# Altium schematic symbol library MCP1700T-SOT23.SchLib: 1 symbol
Pins are listed as number, name and electrical type; pins without a type are passive.

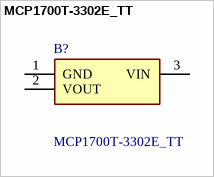
[diagram p0: symbol MCP1700T-3302E_TT]

## MCP1700T-3302E_TT
designator B?
LDO voltage regulator 250mA Isupply 1uA; Manufacturer_Name: Microchip; Manufacturer_Part_Number: MCP1700T-3302E/TT; Geometry.Height: 1.12mm; Mouser Part Number: 579-MCP1700T3302E/TT; Mouser Price/Stock: https://www.mouser.co.uk/ProductDetail/Microchip-Technology/MCP1700T-3302E-TT?qs=fM4xO01eazPmCNDrdHEdaw%3D%3D; Arrow Part Number: MCP1700T-3302E/TT; Arrow Price/Stock: https://www.arrow.com/en/products/mcp1700t-3302ett/microchip-technology?utm_currency=USD&region=europe; Datasheet Link: https://datasheet.datasheetarchive.com/originals/distributors/SFDatasheet-4/sf-00090030.pdf
footprint SOT95P237X112-3N
pins: 1 GND, 2 VOUT, 3 VIN